# Altium footprint library 2.02-SSOP封装.PcbLib: 35 footprints (part 3 of 3)
Each footprint in its own frame and in the unit in brackets; x right, y up, seen from the top. Pads: shape width x height; smd on the part's side, far side on the other; paste and mask are expansions set on the pad; w line width, h text height; cw(c..) or ccw(c..) is an arc to the next point about the centre after c.
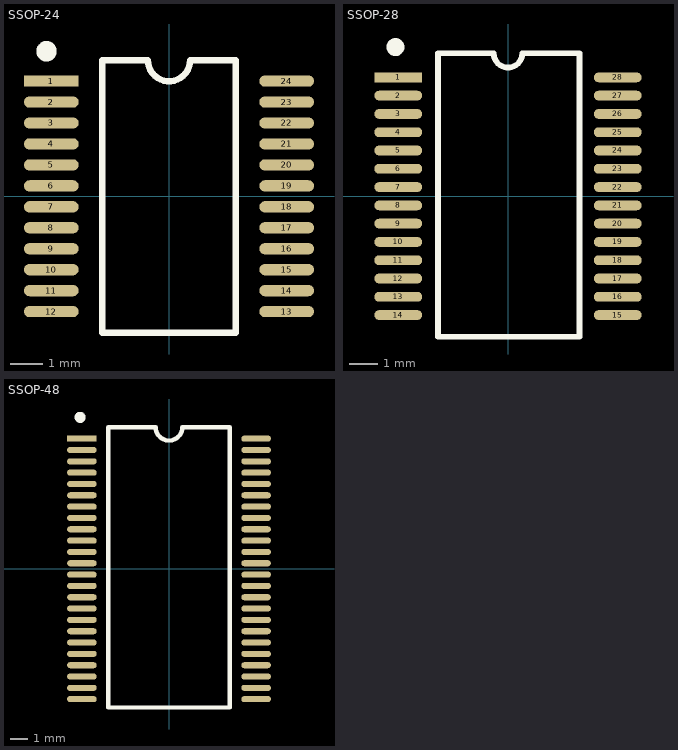
[diagram p2: the footprints below, top view; thin cyan lines are the x and y axes]

## SSOP-24 [mm] "8.3*7.8*1.6"
pads (24):
  rect 1.7x0.35 smd: 1(-3.65,3.575)
  oval 1.7x0.35 smd: 2(-3.65,2.925) 3(-3.65,2.275) 4(-3.65,1.625) 5(-3.65,0.975) 6(-3.65,0.325) 7(-3.65,-0.325) 8(-3.65,-0.975) 9(-3.65,-1.625) 10(-3.65,-2.275) 11(-3.65,-2.925) 12(-3.65,-3.575) 13(3.65,-3.575) 14(3.65,-2.925) 15(3.65,-2.275) 16(3.65,-1.625) 17(3.65,-0.975) 18(3.65,-0.325) 19(3.65,0.325) 20(3.65,0.975) 21(3.65,1.625) 22(3.65,2.275) 23(3.65,2.925) 24(3.65,3.575)
Top Overlay:
  circle w0.381: c-3.8,4.5 r0.127
  lines w0.2: -2.065,-4.225 -2.065,4.225 -0.655,4.225 ccw(c0,4.225) 0.655,4.225 2.065,4.225 2.065,-4.225 -2.065,-4.225
3D body "SSOP24.STEP": height 1.65, standoff -0.03, extent -3.852,-4.15 3.852,4.15

## SSOP-28 [mm] "10.2*7.8*1.9mm"
pads (28):
  rect 1.7x0.35 smd: 1(-3.9,4.225)
  oval 1.7x0.35 smd: 2(-3.9,3.575) 3(-3.9,2.925) 4(-3.9,2.275) 5(-3.9,1.625) 6(-3.9,0.975) 7(-3.9,0.325) 8(-3.9,-0.325) 9(-3.9,-0.975) 10(-3.9,-1.625) 11(-3.9,-2.275) 12(-3.9,-2.925) 13(-3.9,-3.575) 14(-3.9,-4.225) 15(3.9,-4.225) 16(3.9,-3.575) 17(3.9,-2.925) 18(3.9,-2.275) 19(3.9,-1.625) 20(3.9,-0.975) 21(3.9,-0.325) 22(3.9,0.325) 23(3.9,0.975) 24(3.9,1.625) 25(3.9,2.275) 26(3.9,2.925) 27(3.9,3.575) 28(3.9,4.225)
Top Overlay:
  circle w0.381: c-4,5.3 r0.127
  lines w0.203: -2.489,-5 -2.489,5.08 -0.508,5.08 ccw(c0,5.08) 0.508,5.08 2.54,5.08 2.54,-5 -2.489,-5
3D body "SSOP28.STEP": height 1.65, standoff -0.03, extent -3.852,-5.1 3.852,5.1

## SSOP-48 [mm] "16*10.3*2.4mm"
pads (48):
  rect 1.7x0.35 smd: 1(-5,7.475)
  oval 1.7x0.35 smd: 2(-5,6.825) 3(-5,6.175) 4(-5,5.525) 5(-5,4.875) 6(-5,4.225) 7(-5,3.575) 8(-5,2.925) 9(-5,2.275) 10(-5,1.625) 11(-5,0.975) 12(-5,0.325) 13(-5,-0.325) 14(-5,-0.975) 15(-5,-1.625) 16(-5,-2.275) 17(-5,-2.925) 18(-5,-3.575) 19(-5,-4.225) 20(-5,-4.875) 21(-5,-5.525) 22(-5,-6.175) 23(-5,-6.825) 24(-5,-7.475) 25(5,-7.475) 26(5,-6.825) 27(5,-6.175) 28(5,-5.525) 29(5,-4.875) 30(5,-4.225) 31(5,-3.575) 32(5,-2.925) 33(5,-2.275) 34(5,-1.625) 35(5,-0.975) 36(5,-0.325) 37(5,0.325) 38(5,0.975) 39(5,1.625) 40(5,2.275) 41(5,2.925) 42(5,3.575) 43(5,4.225) 44(5,4.875) 45(5,5.525) 46(5,6.175) 47(5,6.825) 48(5,7.475)
Top Overlay:
  circle w0.381: c-5.1,8.7 r0.127
  lines w0.254: -3.475,-7.95 -3.475,8.128 -0.762,8.128 ccw(c0,8.128) 0.762,8.128 3.475,8.128 3.475,-7.95 -3.475,-7.95
3D body "SSOP48.STEP": height 2.45, standoff -0.03, extent -5.002,-8 5.002,8